# Altium footprint library unirel.PcbLib: 5 footprints
Each footprint in its own frame and in the unit in brackets; x right, y up, seen from the top. Pads: shape width x height; smd on the part's side, far side on the other; paste and mask are expansions set on the pad; w line width, h text height; cw(c..) or ccw(c..) is an arc to the next point about the centre after c.
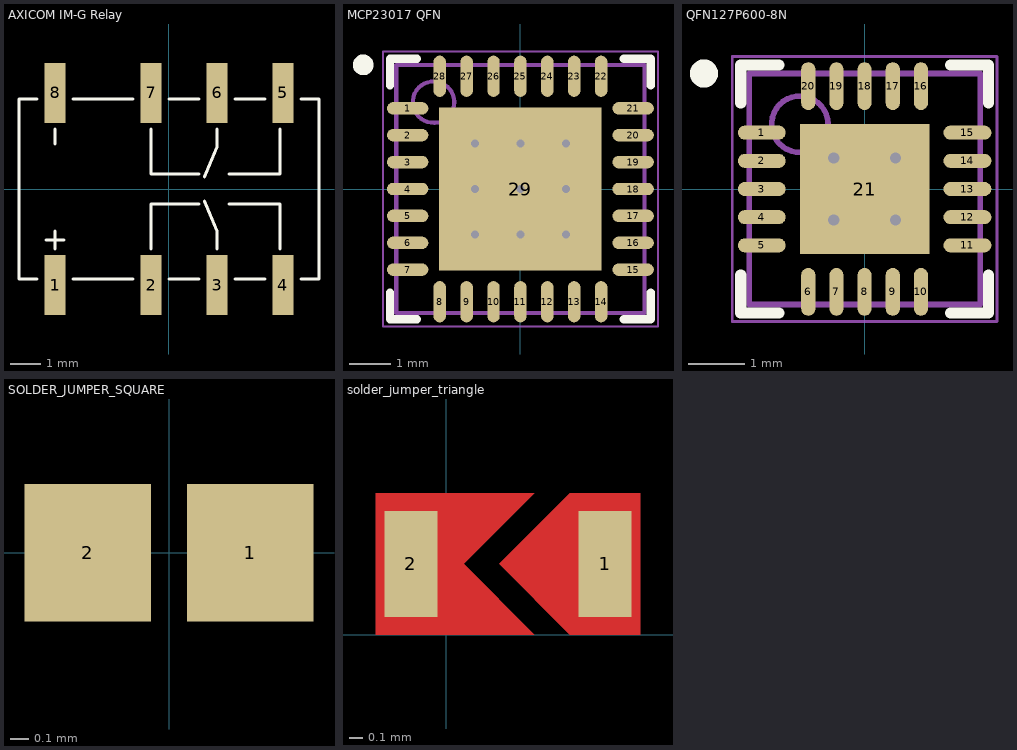
[diagram p0: the footprints below, top view; thin cyan lines are the x and y axes]

## AXICOM IM-G Relay [mm] "TE CONNECTIVITY AXICOM IM-G (Gull wings) Relay SMD"
height 5.65
pads (8):
  rect 0.7x2 smd: 1(-3.797,-3.2) 2(-0.597,-3.2) 3(1.6,-3.2) 4(3.797,-3.2) 5(3.797,3.2) 6(1.6,3.2) 7(-0.597,3.2) 8(-3.797,3.2)
Top Overlay:
  lines w0.1: -4.4,-3 -5,-3 -5,3 -4.4,3 ; -4.1,-1.7 -3.5,-1.7 ; -3.8,-2 -3.8,-1.4 ; -3.8,1.5 -3.8,2 ; -3.2,-3 -1.2,-3 ; -3.2,3 -1.2,3 ; -0.6,-2 -0.6,-0.5 1,-0.5 ; -0.6,2 -0.6,0.5 1,0.5 ; 0,-3 1,-3 ; 0,3 1,3 ; 1.186,-0.406 1.6,-1.4 1.6,-2 ; 1.186,0.406 1.6,1.4 1.6,2 ; 2,-0.5 3.7,-0.5 3.7,-2 ; 2,0.5 3.7,0.5 3.7,2 ; 2.2,-3 3.2,-3 ; 2.2,3 3.2,3 ; 4.4,-3 5,-3 5,3 4.4,3

## MCP23017 QFN [mm] "QFN, 28-Leads, Body 6,00x6,00mm, Pitch 0,65mm, Thermal Pad 3,93x3,93mm, IPC High Density"
height 0.9
pads (29):
  oval 1x0.3 smd: 1(-2.725,1.95) 2(-2.725,1.3) 3(-2.725,0.65) 4(-2.725,0) 5(-2.725,-0.65) 6(-2.725,-1.3) 7(-2.725,-1.95) 15(2.725,-1.95) 16(2.725,-1.3) 17(2.725,-0.65) 18(2.725,0) 19(2.725,0.65) 20(2.725,1.3) 21(2.725,1.95)
  oval 0.3x1 smd: 8(-1.95,-2.725) 9(-1.3,-2.725) 10(-0.65,-2.725) 11(0,-2.725) 12(0.65,-2.725) 13(1.3,-2.725) 14(1.95,-2.725) 22(1.95,2.725) 23(1.3,2.725) 24(0.65,2.725) 25(0,2.725) 26(-0.65,2.725) 27(-1.3,2.725) 28(-1.95,2.725)
  rect 3.93x3.93 smd: 29(0,0)
via 1.1,-1.1 diameter 0.5 hole 0.2
via 0,-1.1 diameter 0.5 hole 0.2
via -1.1,-1.1 diameter 0.5 hole 0.2
via 1.1,0 diameter 0.5 hole 0.2
via 0,0 diameter 0.5 hole 0.2
via -1.1,0 diameter 0.5 hole 0.2
via 1.1,1.1 diameter 0.5 hole 0.2
via 0,1.1 diameter 0.5 hole 0.2
via -1.1,1.1 diameter 0.5 hole 0.2
Top Overlay:
  circle w0.25: c-3.8,3 r0.125
  lines w0.2: -3.15,-2.5 -3.15,-3.15 -2.5,-3.15 ; -3.15,2.5 -3.15,3.15 -2.5,3.15 ; 2.5,-3.15 3.15,-3.15 3.15,-2.5 ; 2.5,3.15 3.15,3.15 3.15,2.5
Mechanical 13:
  circle w0.1: c-2.1,2.1 r0.5
  lines w0.1: -3,-3 3,-3 3,3 -3,3 -3,-3
Mechanical 15:
  lines w0.05: -3.325,-3.325 3.325,-3.325 3.325,3.325 -3.325,3.325 -3.325,-3.325
  lines w0.1: -0.5,0 0.5,0 ; 0,-0.5 0,0.5
3D body "MCP23017 QFN1.step": height 0.9, standoff 0, extent -3.001,-3.001 3.001,3.001

## QFN127P600-8N [mm]
height 0.8
pads (21):
  oval 0.85x0.25 smd: 1(-1.825,1) 2(-1.825,0.5) 3(-1.825,0) 4(-1.825,-0.5) 5(-1.825,-1) 11(1.825,-1) 12(1.825,-0.5) 13(1.825,0) 14(1.825,0.5) 15(1.825,1)
  oval 0.25x0.85 smd: 6(-1,-1.825) 7(-0.5,-1.825) 8(0,-1.825) 9(0.5,-1.825) 10(1,-1.825) 16(1,1.825) 17(0.5,1.825) 18(0,1.825) 19(-0.5,1.825) 20(-1,1.825)
  rect 2.3x2.3 smd: 21(0,0)
via -0.55,0.55 diameter 0.5 hole 0.2
via 0.55,0.55 diameter 0.5 hole 0.2
via -0.55,-0.55 diameter 0.5 hole 0.2
via 0.55,-0.55 diameter 0.5 hole 0.2
Top Overlay:
  circle w0.25: c-2.85,2.05 r0.125
  lines w0.2: -2.2,-1.525 -2.2,-2.2 -1.525,-2.2 ; -2.2,1.525 -2.2,2.2 -1.525,2.2 ; 1.525,-2.2 2.2,-2.2 2.2,-1.525 ; 1.525,2.2 2.2,2.2 2.2,1.525
Mechanical 13:
  circle w0.1: c-1.15,1.15 r0.5
  lines w0.1: -2.05,-2.05 -2.05,2.05 2.05,2.05 2.05,-2.05 -2.05,-2.05
Mechanical 15:
  lines w0.05: -2.35,-2.35 -2.35,2.35 2.35,2.35 2.35,-2.35 -2.35,-2.35
  lines w0.1: -0.5,0 0.5,0 ; 0,-0.5 0,0.5
3D body: height 0.8, standoff 0, extent -2.05,-2.05 2.05,2.05

## SOLDER_JUMPER_SQUARE [mm]
pads (2):
  rect 0.7x0.762 smd paste+0 mask+0: 1(0.45,0) 2(-0.45,0)
Top Layer:
  region: -0.179,-0.508

## solder_jumper_triangle [mil]
pads (2):
  rect 15x30 smd paste+0 mask+0: 1(45,20) 2(-10,20)
Top Layer:
  region: 3.94,0
  region: 55,40 35,40 15,20 35,0 55,0
  region: 5,20 25,40 -20,40 -20,0 25,0